# Altium footprint library PcbLib1.PcbLib: 1 footprints
Each footprint in its own frame and in the unit in brackets; x right, y up, seen from the top. Pads: shape width x height; smd on the part's side, far side on the other; paste and mask are expansions set on the pad; w line width, h text height; cw(c..) or ccw(c..) is an arc to the next point about the centre after c.
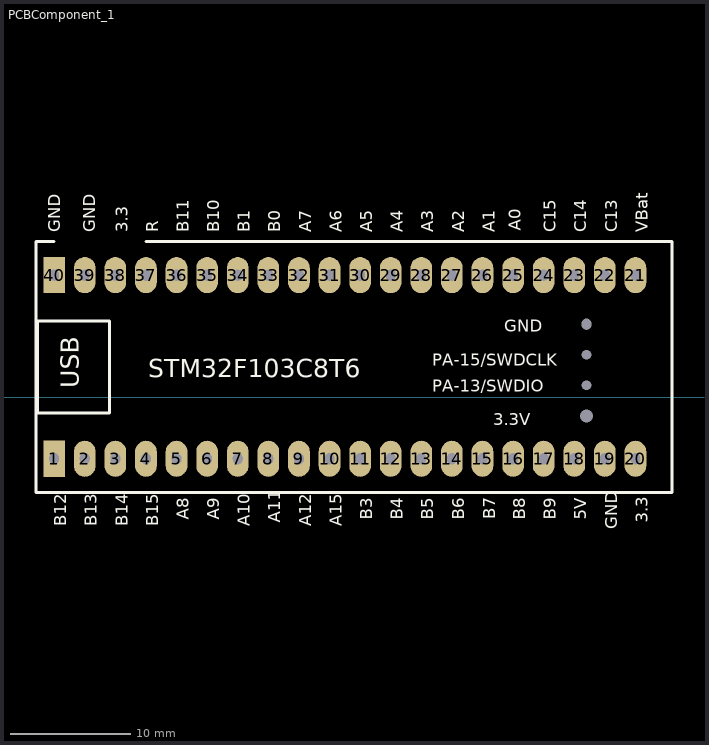
[diagram p0: the footprint, top view; thin cyan lines are the x and y axes]

## PCBComponent_1 [mm]
pads (44):
  rect 1.8x3 hole 0.8 slot 0.905 at 90 deg paste+0 mask+0.051: 1(-103.696,-5.123) 40(-103.696,10.117)
  oval 1.8x3 hole 0.8 slot 0.905 at 90 deg paste+0 mask+0.051: 2(-101.156,-5.123) 3(-98.616,-5.123) 4(-96.076,-5.123) 5(-93.536,-5.123) 6(-90.996,-5.123) 7(-88.456,-5.123) 8(-85.916,-5.123) 9(-83.376,-5.123) 10(-80.836,-5.123) 11(-78.296,-5.123) 12(-75.756,-5.123) 13(-73.216,-5.123) 14(-70.676,-5.123) 15(-68.136,-5.123) 16(-65.596,-5.123) 17(-63.056,-5.123) 18(-60.516,-5.123) 19(-57.976,-5.123) 20(-55.436,-5.123) 21(-55.436,10.117) 22(-57.976,10.117) 23(-60.516,10.117) 24(-63.056,10.117) 25(-65.596,10.117) 26(-68.136,10.117) 27(-70.676,10.117) 28(-73.216,10.117) 29(-75.756,10.117) 30(-78.296,10.117) 31(-80.836,10.117) 32(-83.376,10.117) 33(-85.916,10.117) 34(-88.456,10.117) 35(-90.996,10.117) 36(-93.536,10.117) 37(-96.076,10.117) 38(-98.616,10.117) 39(-101.156,10.117)
  round 0.1 hole 1.082 paste+0 mask+0.051: 41(-59.5,-1.567)
  round 0.1 hole 0.8 paste+0 mask+0.051: 42(-59.5,0.973) 43(-59.5,3.513)
  round 0.1 hole 0.8 slot 0.905 at 90 deg paste+0 mask+0.051: 44(-59.5,6.053)
Top Overlay:
  lines w0.254: -103.696,12.911 -105.22,12.911 -105.22,-7.917 -53.467,-7.917 ; -96.076,12.911 -52.388,12.911 -52.388,-7.917 -53.404,-7.917 ; -105.096,-1.313 -99.096,-1.313 -99.096,6.307 -105.096,6.307 -105.096,-1.313
  text "B7" at -67.056,-10.16 h1
  text "STM32F103C8T6" at -95.885,1.651 h1.52
  text "3.3V" at -67.237,-2.34 h1
  text "GND" at -66.348,5.407 h1
  text "USB" at -101.675,0.719 h1.5
  text "B12" at -102.687,-10.711 h1
  text "B13" at -100.147,-10.711 h1
  text "B14" at -97.607,-10.711 h1
  text "B15" at -95.067,-10.711 h1
  text "A8" at -92.527,-10.203 h1
  text "A9" at -89.987,-10.203 h1
  text "A10" at -87.447,-10.711 h1
  text "A11" at -84.907,-10.457 h1
  text "A12" at -82.367,-10.711 h1
  text "A15" at -79.827,-10.711 h1
  text "B3" at -77.287,-10.203 h1
  text "B4" at -74.747,-10.203 h1
  text "B5" at -72.207,-10.203 h1
  text "B6" at -69.667,-10.203 h1
  text "B8" at -64.587,-10.203 h1
  text "B9" at -62.047,-10.203 h1
  text "5V" at -59.507,-10.203 h1
  text "GND" at -56.967,-10.965 h1
  text "3.3" at -54.427,-10.457 h1
  text "GND" at -103.197,13.662 h1
  text "GND" at -100.276,13.662 h1
  text "3.3" at -97.608,13.673 h1
  text "R" at -95.068,13.673 h1
  text "B11" at -92.527,13.673 h1
  text "B10" at -89.988,13.673 h1
  text "B1" at -87.447,13.673 h1
  text "A0" at -64.97,13.789 h1
  text "B0" at -84.907,13.673 h1
  text "A7" at -82.367,13.673 h1
  text "A6" at -79.827,13.673 h1
  text "A5" at -77.287,13.673 h1
  text "A4" at -74.747,13.673 h1
  text "A3" at -72.207,13.673 h1
  text "A2" at -69.667,13.673 h1
  text "A1" at -67.127,13.673 h1
  text "C15" at -62.048,13.673 h1
  text "C14" at -59.508,13.673 h1
  text "C13" at -56.968,13.673 h1
  text "VBat" at -54.428,13.673 h1
  text "PA-13/SWDIO" at -72.317,0.454 h1
  text "PA-15/SWDCLK" at -72.317,2.613 h1